# Altium footprint library 0541670208.PcbLib: 1 footprints
Each footprint in its own frame and in the unit in brackets; x right, y up, seen from the top. Pads: shape width x height; smd on the part's side, far side on the other; paste and mask are expansions set on the pad; w line width, h text height; cw(c..) or ccw(c..) is an arc to the next point about the centre after c.
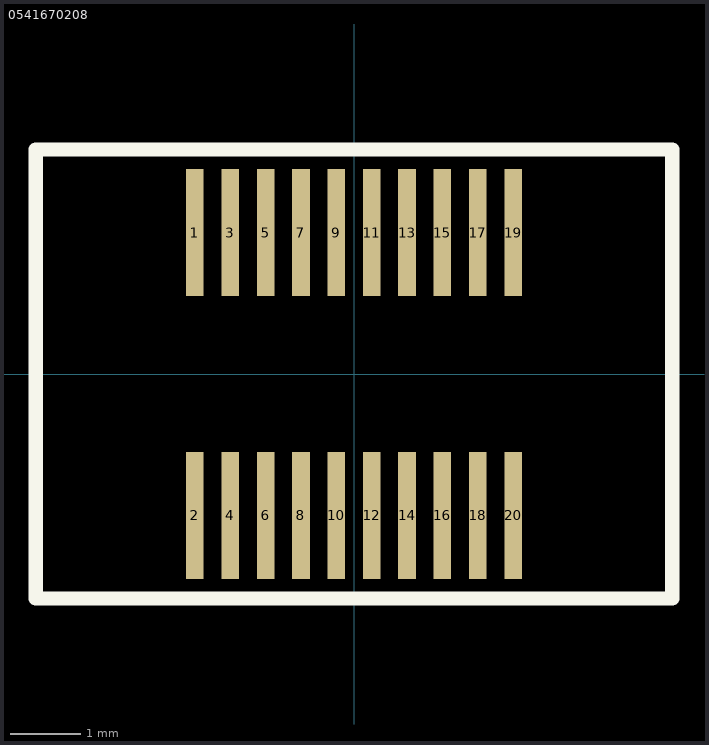
[diagram p0: the footprint, top view; thin cyan lines are the x and y axes]

## 0541670208 [mm]
pads (20):
  rect 0.25x1.8 smd: 1(-2.25,2) 2(-2.25,-2) 3(-1.75,2) 4(-1.75,-2) 5(-1.25,2) 6(-1.25,-2) 7(-0.75,2) 8(-0.75,-2) 9(-0.25,2) 10(-0.25,-2) 11(0.25,2) 12(0.25,-2) 13(0.75,2) 14(0.75,-2) 15(1.25,2) 16(1.25,-2) 17(1.75,2) 18(1.75,-2) 19(2.25,2) 20(2.25,-2)
Top Overlay:
  lines w0.2: -4.5,-3.175 -4.5,3.175 4.5,3.175 4.5,-3.175 -4.5,-3.175
3D body: height 2.33, standoff 0.02, extent -4.4,-2.7 4.4,2.7